# EAGLE library part BM833 (library BM833)
Check availability <https://pricing.snapeda.com/parts/BM833/Fanstel/view-part?ref=eda>
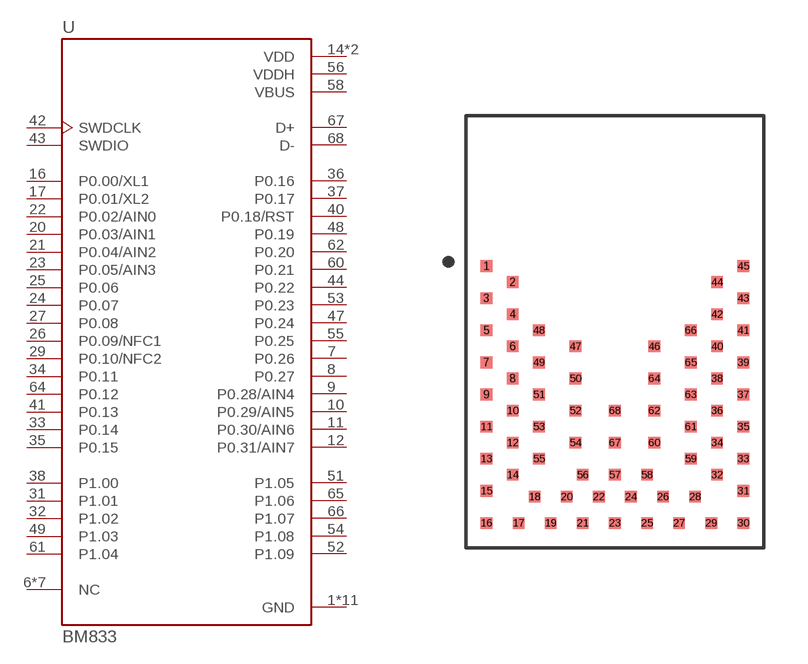
[diagram p0: symbol with the pads of XCVR_BM833; footprint XCVR_BM833]

Designator prefix U

## BM833 (Availability: In Stock; Description: 802.15.4, Bluetooth Bluetooth v5.1 Transceiver Module 2.4GHz PCB Trace Surface Mount; MF: Fanstel; MP: BM833; Package: None; Price: None; Purchase-URL: https://pricing.snapeda.com/search/part/BM833/?ref=eda)  [XCVR_BM833]
1  GND  pwr
2  GND  pwr
3  GND  pwr
4  GND  pwr
5  GND  pwr
6  NC  nc
7  P0.26
8  P0.27
9  P0.28/AIN4
10  P0.29/AIN5
11  P0.30/AIN6
12  P0.31/AIN7
13  GND  pwr
14  VDD  pwr
15  GND  pwr
16  P0.00/XL1
17  P0.01/XL2
18  GND  pwr
19  GND  pwr
20  P0.03/AIN1
21  P0.04/AIN2
22  P0.02/AIN0
23  P0.05/AIN3
24  P0.07
25  P0.06
26  P0.09/NFC1
27  P0.08
28  VDD  pwr
29  P0.10/NFC2
30  GND  pwr
31  P1.01
32  P1.02
33  P0.14
34  P0.11
35  P0.15
36  P0.16
37  P0.17
38  P1.00
39  NC  nc
40  P0.18/RST
41  P0.13
42  SWDCLK  in
43  SWDIO
44  P0.22
45  GND  pwr
46  NC  nc
47  P0.24
48  P0.19
49  P1.03
50  NC  nc
51  P1.05
52  P1.09
53  P0.23
54  P1.08
55  P0.25
56  VDDH  pwr
57  NC  nc
58  VBUS  pwr
59  NC  nc
60  P0.21
61  P1.04
62  P0.20
63  NC  nc
64  P0.12
65  P1.06
66  P1.07
67  D+
68  D-

## Footprint XCVR_BM833 (pad centres in mm)
smd 0.4 x 0.4: 1 -4.4,2.35; 2 -3.5,1.8; 3 -4.4,1.25; 4 -3.5,0.7; 5 -4.4,0.15; 6 -3.5,-0.4; 7 -4.4,-0.95; 8 -3.5,-1.5; 9 -4.4,-2.05; 10 -3.5,-2.6; 11 -4.4,-3.15; 12 -3.5,-3.7; 13 -4.4,-4.25; 14 -3.5,-4.8; 15 -4.4,-5.35; 16 -4.4,-6.45; 17 -3.3,-6.45; 18 -2.75,-5.55; 19 -2.2,-6.45; 20 -1.65,-5.55; 21 -1.1,-6.45; 22 -0.55,-5.55; 23 0,-6.45; 24 0.55,-5.55; 25 1.1,-6.45; 26 1.65,-5.55; 27 2.2,-6.45; 28 2.75,-5.55; 29 3.3,-6.45; 30 4.4,-6.45; 31 4.4,-5.35; 32 3.5,-4.8; 33 4.4,-4.25; 34 3.5,-3.7; 35 4.4,-3.15; 36 3.5,-2.6; 37 4.4,-2.05; 38 3.5,-1.5; 39 4.4,-0.95; 40 3.5,-0.4; 41 4.4,0.15; 42 3.5,0.7; 43 4.4,1.25; 44 3.5,1.8; 45 4.4,2.35; 46 1.35,-0.4; 47 -1.35,-0.4; 48 -2.6,0.15; 49 -2.6,-0.95; 50 -1.35,-1.5; 51 -2.6,-2.05; 52 -1.35,-2.6; 53 -2.6,-3.15; 54 -1.35,-3.7; 55 -2.6,-4.25; 56 -1.1,-4.8; 57 0,-4.8; 58 1.1,-4.8; 59 2.6,-4.25; 60 1.35,-3.7; 61 2.6,-3.15; 62 1.35,-2.6; 63 2.6,-2.05; 64 1.35,-1.5; 65 2.6,-0.95; 66 2.6,0.15; 67 0,-3.7; 68 0,-2.6